# EAGLE library part TPS62153RGTR (library TPS62153RGTR)
317V 1A Step-Down Converter in 3x3 QFN package Source: Datasheet <http://www.ti.com/lit/gpn/TPS62153>
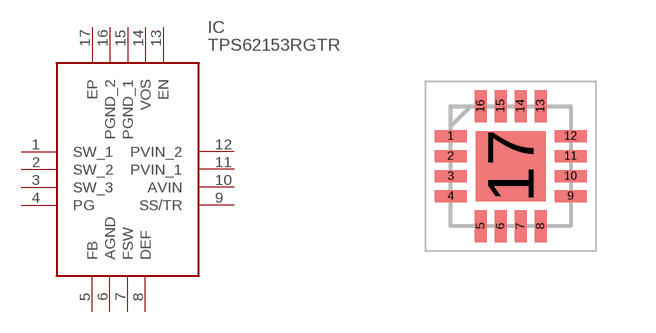
[diagram p0: symbol with the pads of QFN50P300X300X100-17N; footprint QFN50P300X300X100-17N]

Designator prefix IC

## TPS62153RGTR (Description: 317V 1A Step-Down Converter in 3x3 QFN package; Height: 1mm; Manufacturer_Name: Texas Instruments; Manufacturer_Part_Number: TPS62153RGTR; Mouser_Part_Number: 595-TPS62153RGTR; Mouser_Price-Stock: https://www.mouser.co.uk/ProductDetail/Texas-Instruments/TPS62153RGTR?qs=gXEV9p%2FxLgf6PfFn0Q2piA%3D%3D)  [QFN50P300X300X100-17N]
1  SW_1
2  SW_2
3  SW_3
4  PG
5  FB
6  AGND
7  FSW
8  DEF
9  SS/TR
10  AVIN
11  PVIN_1
12  PVIN_2
13  EN
14  VOS
15  PGND_1
16  PGND_2
17  EP

## Footprint QFN50P300X300X100-17N (pad centres in mm)
RGT0016C height=1
smd 0.8 x 0.3: 1 -1.5,0.75; 2 -1.5,0.25; 3 -1.5,-0.25; 4 -1.5,-0.75; 9 1.5,-0.75; 10 1.5,-0.25; 11 1.5,0.25; 12 1.5,0.75
smd 0.3 x 0.8: 5 -0.75,-1.5; 6 -0.25,-1.5; 7 0.25,-1.5; 8 0.75,-1.5; 13 0.75,1.5; 14 0.25,1.5; 15 -0.25,1.5; 16 -0.75,1.5
smd 1.75 x 1.75: 17 0,0